# Altium integrated library 74LVC244APW_118.IntLib: 1 symbol
Pins are listed as number, name and electrical type; pins without a type are passive.

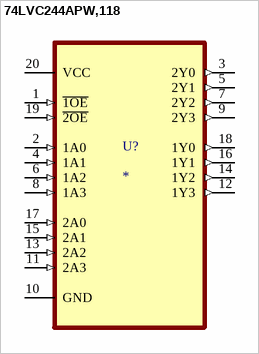
[diagram p0: symbol 74LVC244APW,118]

## 74LVC244APW,118
designator U?
Octal buffer/line driver; MP: 74LVC244APW-118; Package: None; Price: None; Value: *; Availability: Unavailable
footprint SOP65P640X110-20N
pins: 1 ~{1OE} (in), 2 1A0 (in), 3 2Y0 (out), 4 1A1 (in), 5 2Y1 (out), 6 1A2 (in), 7 2Y2 (out), 8 1A3 (in), 9 2Y3 (out), 10 GND, 11 2A3 (in), 12 1Y3 (out), 13 2A2 (in), 14 1Y2 (out), 15 2A1 (in), 16 1Y1 (out), 17 2A0 (in), 18 1Y0 (out), 19 ~{2OE} (in), 20 VCC (power)